# Altium footprint library F10wers_Footprints.PcbLib: 41 footprints (part 2 of 3)
Each footprint in its own frame and in the unit in brackets; x right, y up, seen from the top. Pads: shape width x height; smd on the part's side, far side on the other; paste and mask are expansions set on the pad; w line width, h text height; cw(c..) or ccw(c..) is an arc to the next point about the centre after c.
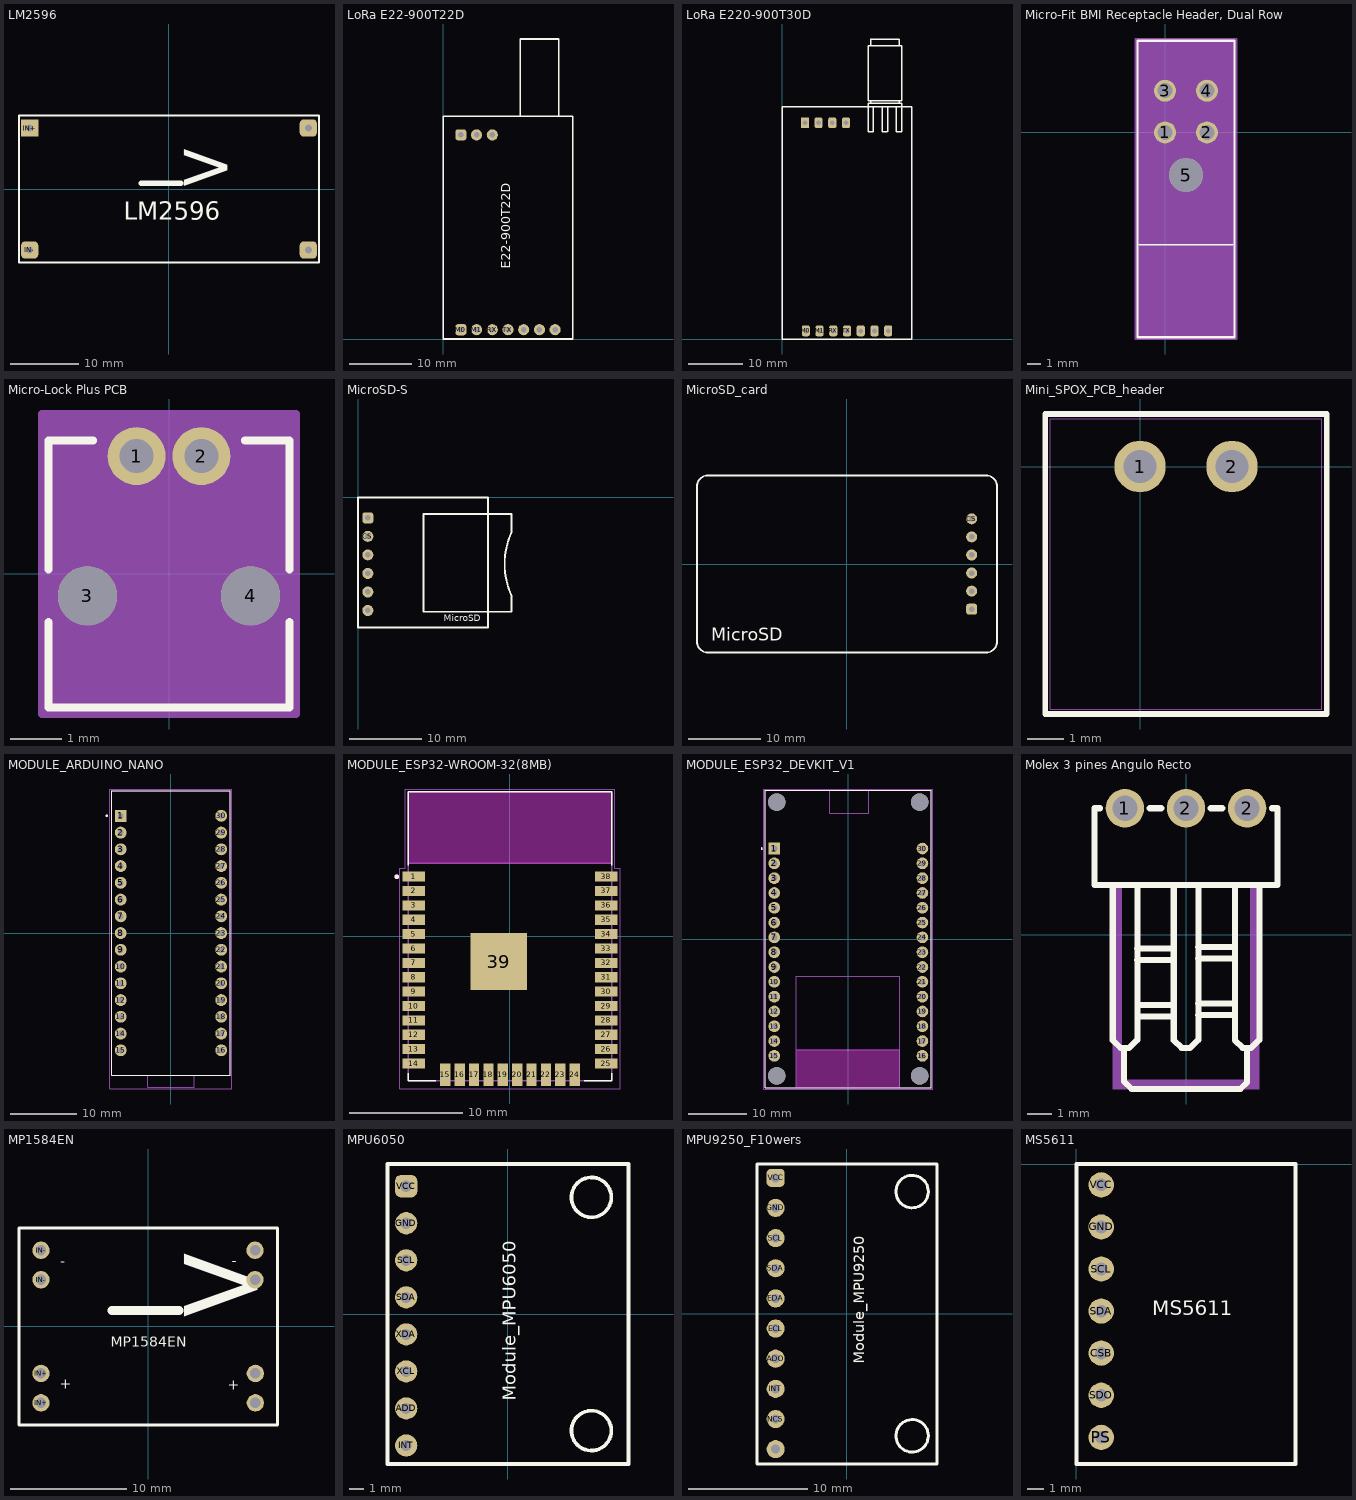
[diagram p1: the footprints below, top view; thin cyan lines are the x and y axes]

## LM2596 [mm]
pads (4):
  rect 2.54x2.54 hole 1: IN+(-20.32,8.89)
  rrect50% 2.54x2.54 hole 1: IN-(-20.32,-8.89) OUT+(20.32,8.89) OUT-(20.32,-8.89)
Top Overlay:
  lines w0.254: -21.875,-10.725 -21.875,10.725 21.875,10.725 21.875,-10.725 -21.875,-10.725
  lines w0.762: -4.075,0.825 1.725,0.825
  text "LM2596" at -6.6,-5.334 h4.44
  text ">" at 1.095,-2.598 h12.7
3D body "YAAJ_DCDC_StepDown_LM2596_PinHeaders_cp.step": height 16.8, standoff -3, extent -21.875,-10.75 21.725,10.55

## LoRa E22-900T22D [mm]
pads (10):
  round 1.8 hole 0.914: AUX(13.04,1.5) FixHole(5.42,33) FixHole(7.96,33) GND(18.12,1.5) M1(5.42,1.5) RX(7.96,1.5) TX(10.5,1.5) VCC(15.58,1.5)
  rrect50% 1.8x1.8 hole 0.914: FixHole(2.88,33) M0(2.88,1.5)
Top Overlay:
  lines w0.254: 12.5,36 12.5,48.5 18.7,48.5 18.7,36 ; 0,0 21,0 21,36 0,36 0,0
  text "E22-900T22D" at 11.377,11.391 h2.5

## LoRa E220-900T30D [mm]
pads (11):
  rrect50% 1.5x2 hole 0.9: AUX(14.54,1.5) FixHole(6.74,40) FixHole(9.28,40) FixHole(11.82,40) GND(19.62,1.5) M0(4.38,1.5) M1(6.92,1.5) RX(9.46,1.5) TX(12,1.5) VCC(17.08,1.5)
  rect 1.5x2 hole 0.9: FixHole(4.2,40)
Top Overlay:
  lines w0.254: 16.35,43.575 16.35,44.075 ; 16.35,54.275 16.35,55.5 21.65,55.5 21.65,54.275 ; 16.9,43 16.9,38.35 15.925,38.35 15.9,38.375 15.9,43 15.9,43.575 22.1,43.575 22.1,43 22.1,38.35 21.125,38.35 ; 18.5,43 18.5,38.375 19.475,38.375 ; 19.5,38.35 19.5,43 ; 21.1,38.375 21.1,43 ; 21.65,43.575 21.65,44.075 ; 0,0 24,0 24,43 0,43 0,0 ; 15.9,44.075 22.1,44.075 22.1,54.275 15.9,54.275 15.9,44.075
3D body "E220-XXXT30D(3D).step": height 7.45, standoff -5.75, extent 0,0 24,52.883

## Micro-Fit BMI Receptacle Header, Dual Row [mil]
pads (5):
  round 62 / inner round 60 / far side round 62 hole 42 paste-99999 mask+0: 1(0,0) 2(118.11,0) 3(0,118.11) 4(118.11,118.11)
  round 95 / inner round 60 / far side round 95 hole 95 unplated paste-99999 mask+0: 5(59.06,-120.08)
Top Overlay:
  lines w5: -72.94,-317.06 191.06,-317.06
  lines w6: -77.94,-578.06 196.06,-578.06 196.06,258.94 -77.94,258.94 -77.94,-578.06
Mechanical 13:
  circle w20: c0,-75 r15
  lines w1: -72.94,-573.06 191.06,-573.06 191.06,-317.06 191.06,253.94 -72.94,253.94 -72.94,-317.06 -72.94,-573.06
Mechanical 15:
  region: 201.06,263.94 -82.94,263.94 -82.94,-583.06 201.06,-583.06
  lines w6: -82.94,-583.06 201.06,-583.06 201.06,263.94 -82.94,263.94 -82.94,-583.06
3D body "Micro-Fit BMI Receptacle Header, Dual Row.stp": height 413.5, standoff -144.5, extent -72,-571 192,255

## Micro-Lock Plus PCB [mil]
pads (4):
  round 44 hole 26 paste-99999 mask+0: 1(-24.61,89.57) 2(24.61,89.57)
  round 45 hole 45 unplated paste-99999 mask+0: 3(-62.01,-16.73) 4(62.01,-16.73)
Top Overlay:
  lines w6: -91.5,-36.67 -91.5,-101.54 91.5,-101.54 91.5,-36.67 ; -91.5,3.21 -91.5,101.46 -57.63,101.46 ; 57.63,101.46 91.5,101.46 91.5,3.21
Mechanical 13:
  circle w20: c-24.61,89.57 r15
  lines w1: -86.5,-96.54 -86.5,96.46 86.5,96.46 86.5,-96.54 -86.5,-96.54
Mechanical 15:
  region: 96.5,121.57 -96.5,121.57 -96.5,-106.54 96.5,-106.54
  lines w6: -96.5,-106.54 96.5,-106.54 96.5,121.57 -96.5,121.57 -96.5,-106.54
3D body "Micro-Lock Plus PCB.stp": height 152.07, standoff -90.05, extent -86.61,-96.06 86.61,96.46

## MicroSD-S [mil]
pads (6):
  rrect50% 60x60 hole 30: 3V3(53.15,-110.24)
  round 60 hole 30: CLK(53.15,-411.42) CS(53.15,-210.63) GND(53.15,-612.2) MISO(53.15,-511.81) MOSI(53.15,-311.02)
Top Overlay:
  lines w10: 0,-703.94 0,0 703.94,0 703.94,-703.94 0,-703.94 ; 354.72,-619.29 354.72,-89.37 703.94,-89.37 831.5,-89.37 831.5,-190.16 ccw(c1210.46,-360.43) 831.5,-530.71 831.5,-619.29 703.94,-619.29 354.72,-619.29
  text "MicroSD" at 465,-684.3 h60
3D body "microSD_module.step": height 135.52, standoff -8.07, extent 6.73,-709.33 830.07,-0.67

## MicroSD_card [mil]
pads (6):
  round 60 hole 30: CS(679.13,246.06) MISO(679.13,-49.21) MOSI(679.13,49.21) SCK(679.13,147.64) VCC(679.13,-147.64)
  rrect50% 60x60 hole 30: GND(679.13,-246.06)
Top Overlay:
  lines w10: -816.93,-423.23 ccw(c-757.87,-423.23) -757.87,-482.28 757.87,-482.28 ccw(c757.87,-423.23) 816.93,-423.23 816.93,423.23 ccw(c757.87,423.23) 757.87,482.28 -757.87,482.28 ccw(c-757.87,423.23) -816.93,423.23 -816.93,-423.23
  text "MicroSD" at -738.19,-441.54 h118.11
3D body "leitor microsd.step": height 157.98, standoff 0.5, extent -810.04,-472.44 951.71,472.44

## Mini_SPOX_PCB_header [mil]
pads (2):
  round 55 / inner round 60 / far side round 55 hole 35 paste-99999 mask+0: 1(0,0) 2(98.43,0)
Top Overlay:
  lines w6: -101.29,-264.82 -101.29,56.18 199.71,56.18 199.71,-264.82 -101.29,-264.82
Mechanical 13:
  circle w20: c0,0 r15
  lines w1: -96.29,-259.82 -96.29,51.18 194.71,51.18 194.71,-259.82 -96.29,-259.82
3D body "Mini_SPOX_PCB_header.stp": height 193.41, standoff -137.3, extent -95.67,-261.02 195.67,50

## MODULE_ARDUINO_NANO [mm]
pads (30):
  rect 1.8x1.8 / inner round 1.8 / far side rect 1.8x1.8 hole 0.9: 1(-7.62,17.78)
  round 1.8 hole 0.9: 2(-7.62,15.24) 3(-7.62,12.7) 4(-7.62,10.16) 5(-7.62,7.62) 6(-7.62,5.08) 7(-7.62,2.54) 8(-7.62,0) 9(-7.62,-2.54) 10(-7.62,-5.08) 11(-7.62,-7.62) 12(-7.62,-10.16) 13(-7.62,-12.7) 14(-7.62,-15.24) 15(-7.62,-17.78) 16(7.62,-17.78) 17(7.62,-15.24) 18(7.62,-12.7) 19(7.62,-10.16) 20(7.62,-7.62) 21(7.62,-5.08) 22(7.62,-2.54) 23(7.62,0) 24(7.62,2.54) 25(7.62,5.08) 26(7.62,7.62) 27(7.62,10.16) 28(7.62,12.7) 29(7.62,15.24) 30(7.62,17.78)
Top Overlay:
  circle w0.2: c-9.75,17.78 r0.1
  lines w0.127: -9,-21.6 9,-21.6 9,21.6 -9,21.6 -9,-21.6
Mechanical 13:
  circle w0.2: c-9.75,17.78 r0.1
  lines w0.127: -3.5,-21.6 3.5,-21.6 ; -3.5,-21.6 -9,-21.6 -9,21.6 9,21.6 9,-21.6 3.5,-21.6 ; -3.5,-21.6 -3.5,-23.4 3.5,-23.4 3.5,-21.6
Mechanical 15:
  lines w0.05: -9.25,-23.65 -9.25,21.85 9.25,21.85 9.25,-23.65 -9.25,-23.65
3D body "step_temp.STEP": height 12.6, standoff -6, extent -9,-23.4 9,21.6

## MODULE_ESP32-WROOM-32(8MB) [mm]
height 3.2
pads (39):
  rect 2x0.9 smd: 1(-8.5,5.26) 2(-8.5,3.99) 3(-8.5,2.72) 4(-8.5,1.45) 5(-8.5,0.18) 6(-8.5,-1.09) 7(-8.5,-2.36) 8(-8.5,-3.63) 9(-8.5,-4.9) 10(-8.5,-6.17) 11(-8.5,-7.44) 12(-8.5,-8.71) 13(-8.5,-9.98) 14(-8.5,-11.25) 25(8.5,-11.25) 26(8.5,-9.98) 27(8.5,-8.71) 28(8.5,-7.44) 29(8.5,-6.17) 30(8.5,-4.9) 31(8.5,-3.63) 32(8.5,-2.36) 33(8.5,-1.09) 34(8.5,0.18) 35(8.5,1.45) 36(8.5,2.72) 37(8.5,3.99) 38(8.5,5.26)
  rect 0.9x2 smd: 15(-5.715,-12.25) 16(-4.445,-12.25) 17(-3.175,-12.25) 18(-1.905,-12.25) 19(-0.635,-12.25) 20(0.635,-12.25) 21(1.905,-12.25) 22(3.175,-12.25) 23(4.445,-12.25) 24(5.715,-12.25)
  rect 5x5 smd paste-3: 39(-1,-2.24)
Top Overlay:
  circle w0.2: c-10,5.25 r0.1
  lines w0.127: -9,-12.1 -9,-12.75 -6.55,-12.75 ; -9,6.25 -9,12.75 9,12.75 9,6.25 ; 6.55,-12.75 9,-12.75 9,-12.1
Top Paste:
  region: -1.46,-1.78 -3.04,-1.78 -3.04,-0.2 -1.46,-0.2
  region: 1.04,-1.78 -0.54,-1.78 -0.54,-0.2 1.04,-0.2
  region: 1.04,-4.28 -0.54,-4.28 -0.54,-2.7 1.04,-2.7
  region: -1.46,-4.28 -3.04,-4.28 -3.04,-2.7 -1.46,-2.7
Keep-Out Layer:
  region: 9,6.45 -9,6.45 -9,12.75 9,12.75
Mechanical 13:
  circle w0.2: c-10,5.25 r0.1
  lines w0.127: -9,6.45 -9,-12.75 9,-12.75 9,6.45 ; -9,6.45 -9,12.75 9,12.75 9,6.45 ; -9,6.45 9,6.45
  text "ANTENNA" at -6,9 h1.78
Mechanical 15:
  lines w0.05: -9.75,-13.5 9.75,-13.5 9.75,6 9.25,6 9.25,13 -9.25,13 -9.25,6 -9.75,6 -9.75,-13.5
3D body "step_temp.STEP": height 3.2, standoff 0, extent -9,-12.75 9,12.75

## MODULE_ESP32_DEVKIT_V1 [mm]
height 6.8
pads (34):
  rect 2x2 / inner round 2 / far side rect 2x2 hole 1.02: 1(-12.7,15.515)
  round 2 hole 1.02: 2(-12.7,12.975) 3(-12.7,10.435) 4(-12.7,7.895) 5(-12.7,5.355) 6(-12.7,2.815) 7(-12.7,0.275) 8(-12.7,-2.265) 9(-12.7,-4.805) 10(-12.7,-7.345) 11(-12.7,-9.885) 12(-12.7,-12.425) 13(-12.7,-14.965) 14(-12.7,-17.505) 15(-12.7,-20.045) 16(12.7,-20.045) 17(12.7,-17.505) 18(12.7,-14.965) 19(12.7,-12.425) 20(12.7,-9.885) 21(12.7,-7.345) 22(12.7,-4.805) 23(12.7,-2.265) 24(12.7,0.275) 25(12.7,2.815) 26(12.7,5.355) 27(12.7,7.895) 28(12.7,10.435) 29(12.7,12.975) 30(12.7,15.515)
  round 3 hole 3 unplated: ""(-12.28,-23.475) ""(-12.28,23.475) ""(12.23,-23.475) ""(12.23,23.475)
Top Overlay:
  circle w0.2: c-14.85,15.515 r0.1
  lines w0.127: -14.28,-25.475 14.23,-25.475 ; -14.28,-25.475 -14.28,25.475 ; -14.28,-25.475 -14.28,25.475 ; -14.28,-25.475 -8.91,-25.475 8.78,-25.475 14.23,-25.475 ; -14.28,25.475 14.23,25.475 ; -14.28,25.475 -3.211,25.475 3.5,25.475 14.23,25.475 ; 14.23,-25.475 14.23,25.475 ; 14.23,-25.475 14.23,25.475
Keep-Out Layer:
  region: 8.78,-25.475 -8.91,-25.475 -8.91,-18.985 8.78,-18.985
  region: 8.78,-25.475 -8.91,-25.475 -8.91,-18.985 8.78,-18.985
Mechanical 13:
  circle w0.2: c-14.85,15.515 r0.1
  lines w0.127: -8.91,-25.475 -14.28,-25.475 -14.28,25.475 -3.211,25.475 ; -8.91,-25.475 8.78,-25.475 ; -8.91,-25.475 -8.91,-18.985 ; -8.91,-18.985 -8.91,-6.355 8.78,-6.355 8.78,-18.985 ; -8.91,-18.985 8.78,-18.985 ; -3.211,25.475 3.5,25.475 ; -3.211,25.475 -3.211,21.585 3.5,21.585 3.5,25.475 ; 3.5,25.475 14.23,25.475 14.23,-25.475 8.78,-25.475 ; 8.78,-25.475 8.78,-18.985
Mechanical 15:
  lines w0.05: -14.53,-25.725 -14.53,25.725 14.48,25.725 14.48,-25.725 -14.53,-25.725
3D body "step_temp.STEP": height 7.05, standoff -6, extent -14.1,-25.9 14.1,26.55

## Molex 3 pines Angulo Recto [mm]
pads (3):
  round 1.6 hole 1.05 paste-2539.97 mask+0.051: 1(-2.55,5.275) 2(-0.01,5.275) 2(2.53,5.275)
Top Overlay:
  lines w0.254: -3.781,5.275 -3.82,5.275 ; -3.581,5.275 -3.82,5.275 ; -3.058,1.973 -3.058,-4.379 -2.735,-4.702 -2.378,-4.702 -2.035,-4.359 -2.035,1.973 ; -2.595,-4.702 -2.595,-6.089 -2.275,-6.409 2.255,-6.409 2.534,-6.13 2.534,-4.702 ; -2.042,-1.047 -0.525,-1.047 ; -2.042,-0.567 -0.525,-0.567 ; -2.035,-3.395 -0.518,-3.395 ; -2.035,-2.915 -0.518,-2.915 ; -1.519,5.275 -1.041,5.275 ; -1.319,5.275 -1.241,5.275 ; -0.518,1.973 -0.518,-4.379 -0.195,-4.702 0.162,-4.702 0.505,-4.359 0.505,1.973 ; 0.491,-0.985 2.007,-0.985 ; 0.491,-0.505 2.007,-0.505 ; 0.498,-3.333 2.015,-3.333 ; 0.498,-2.853 2.015,-2.853 ; 1.021,5.275 1.499,5.275 ; 1.221,5.275 1.299,5.275 ; 2.022,1.973 2.022,-4.379 2.345,-4.702 2.702,-4.702 3.045,-4.359 3.045,1.973 ; 3.561,5.275 3.673,5.275 3.8,5.275 3.8,2.075 -3.82,2.075 -3.82,5.275
Mechanical 15:
  region: -3.058,-6.409 -3.058,2.075 -2.677,2.1 -2.677,-6.028 2.657,-6.028 2.657,2.1 3.038,2.1 3.038,-6.409

## MP1584EN [mm]
pads (8):
  round 1.5 hole 0.9: IN+(-9.25,-6.59) IN+(-9.25,-4.05) IN-(-9.25,4.035) IN-(-9.25,6.575) OUT+(9.25,-6.59) OUT+(9.25,-4.05) OUT-(9.225,4.035) OUT-(9.225,6.575)
Top Overlay:
  lines w0.254: -11.15,-8.5 11.15,-8.5 11.15,8.5 -11.15,8.5 -11.15,-8.5
  lines w0.762: -3.125,1.375 2.675,1.375
  text ">" at 2.045,-2.048 h12.7
  text "MP1584EN" at -3.225,-2.036 h1.52
  text "+" at -7.625,-5.669 h1.52
  text "+" at 6.85,-5.769 h1.52
  text "-" at -7.575,4.875 h1.52
  text "-" at 7.2,4.956 h1.52
3D body "MP1584EN1.step": height 4.1, standoff 0, extent -11.05,-8.4 11.05,8.4

## MPU6050 [mil]
pads (8):
  round 60 hole 30: ADD(-274.61,-254.82) GND(-274.61,245.18) INT(-274.61,-354.82) SCL(-274.61,145.18) SDA(-274.61,45.18) XCL(-274.61,-154.82) XDA(-274.61,-54.82)
  rrect50% 60x60 hole 30: VCC(-274.61,345.18)
Top Overlay:
  circle w10: c225.39,315.18 r53.85
  circle w10: c225.39,-314.82 r53.85
  lines w10: -324.8,-404.82 325.39,-404.82 325.39,405.18 -324.8,405.18 -324.8,-404.82
  text "Module_MPU6050" at 33.17,-234.59 h60
3D body "MPU.stp": height 179.24, standoff -255.8, extent -322.64,-417.66 307.28,409.11

## MPU9250_F10wers [mil]
pads (10):
  round 60 hole 30: ADO(-236.22,-148.82) ECL(-236.22,-48.82) EDA(-236.22,51.18) FSYNC(-236.22,-448.82) GND(-236.22,351.18) INT(-236.22,-248.82) NCS(-236.22,-348.82) SCL(-236.22,251.18) SDA(-236.22,151.18)
  rrect50% 60x60 hole 30: VCC(-236.22,451.18)
Top Overlay:
  circle w10: c216.54,-404.53 r53.85
  circle w10: c216.54,405.51 r53.85
  lines w10: -298.23,-498.03 -298.23,497.05 299.21,497.05 299.21,-498.03 -298.23,-498.03
  text "Module_MPU9250" at 69.34,-166.34 h60
3D body "MPU-9250.stp": height 239.85, standoff -263.11, extent -294.29,-500 296.26,500

## MS5611 [mil]
pads (7):
  round 60 hole 30: CSB(59.06,-449.61) GND(59.06,-149.61) PS(59.06,-649.61) SCL(59.06,-249.61) SDA(59.06,-349.61) SDO(59.06,-549.61) VCC(59.06,-49.61)
Top Overlay:
  lines w10: 0,-712.99 521,-712.99 520.98,0 0,0 0,-712.99
  text "MS5611" at 180.45,-371.6 h60